# Altium footprint library design.PcbLib: 44 footprints (part 3 of 3)
Each footprint in its own frame and in the unit in brackets; x right, y up, seen from the top. Pads: shape width x height; smd on the part's side, far side on the other; paste and mask are expansions set on the pad; w line width, h text height; cw(c..) or ccw(c..) is an arc to the next point about the centre after c.
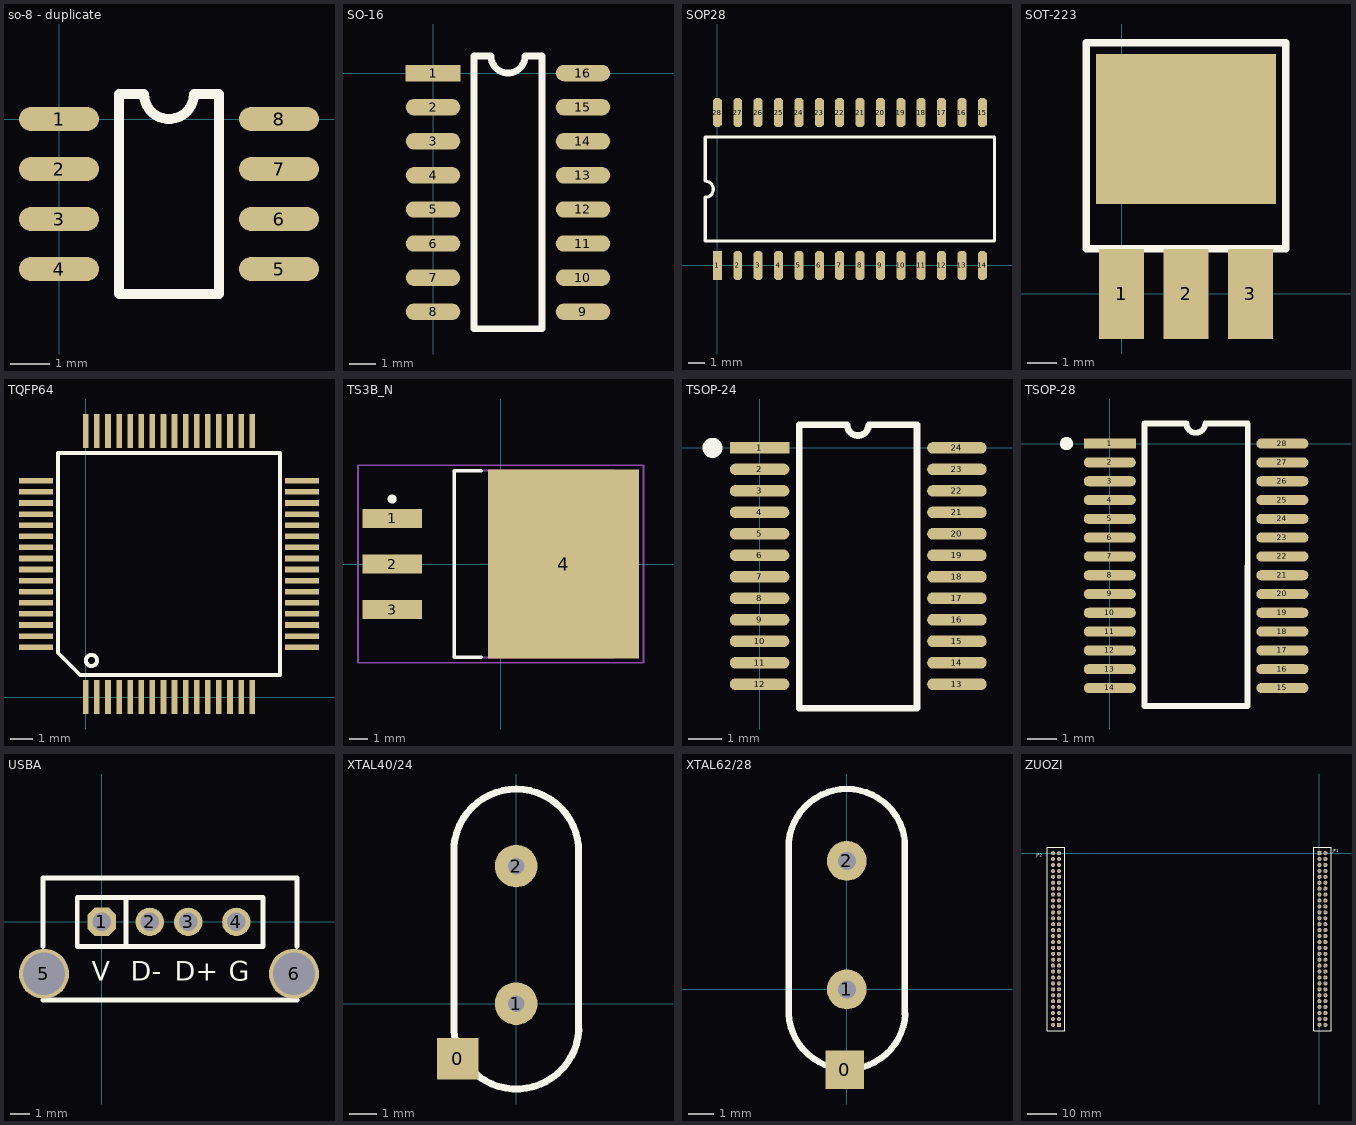
[diagram p2: the footprints below, top view; thin cyan lines are the x and y axes]

## so-8 - duplicate [mil]
pads (8):
  oval 80x24 smd mask+4: 1(0,0) 2(0,-50) 3(0,-100) 4(0,-150) 5(220,-150) 6(220,-100) 7(220,-50) 8(220,0)
Top Overlay:
  lines w10: 60,-175 160,-175 160,25 135,25 cw(c110,25) 85,25 60,25 60,-175

## SO-16 [mil]
pads (16):
  rect 80x24 smd: 1(0,0)
  oval 80x24 smd: 2(0,-50) 3(0,-100) 4(0,-150) 5(0,-200) 6(0,-250) 7(0,-300) 8(0,-350) 9(220,-350) 10(220,-300) 11(220,-250) 12(220,-200) 13(220,-150) 14(220,-100) 15(220,-50) 16(220,0)
Top Overlay:
  lines w10: 60,-375 160,-375 160,25 135,25 cw(c110,25) 85,25 60,25 60,-375

## SOP28 [mil]
height 66.93
pads (28):
  rect 22x72 smd: 1(0,0)
  oct 22x72 smd: 2(50,0) 3(100,0) 4(150,0) 5(200,0) 6(250,0) 7(300,0) 8(350,0) 9(400,0) 10(450,0) 11(500,0) 12(550,0) 13(600,0) 14(650,0) 15(650,375) 16(600,375) 17(550,375) 18(500,375) 19(450,375) 20(400,375) 21(350,375) 22(300,375) 23(250,375) 24(200,375) 25(150,375) 26(100,375) 27(50,375) 28(0,375)
Top Overlay:
  lines w8: -30,60 -30,167 ccw(c-30,187) -30,207 -30,315 680,315 680,60 -30,60

## SOT-223 [mil]
height 66.93
pads (4):
  rect 60x120 smd: 1(0,0) 2(86,0) 3(172,0)
  rect 240x200 smd: ""(86,220)
Top Overlay:
  lines w10: -47,60 219,60 219,335 -47,335 -47,60

## TQFP64 [mil]
pads (64):
  rect 10x60 smd: 1(0.39,0.2) 2(20.07,0.2) 3(39.76,0.2) 4(59.44,0.2) 5(79.13,0.2) 6(98.81,0.2) 7(118.5,0.2) 8(138.18,0.2) 9(157.87,0.2) 10(177.55,0.2) 11(197.24,0.2) 12(216.92,0.2) 13(236.61,0.2) 14(256.29,0.2) 15(275.98,0.2) 16(295.66,0.2) 33(295.66,472.65) 34(275.98,472.65) 35(256.29,472.65) 36(236.61,472.65) 37(216.92,472.65) 38(197.24,472.65) 39(177.55,472.65) 40(157.87,472.65) 41(138.18,472.65) 42(118.5,472.65) 43(98.81,472.65) 44(79.13,472.65) 45(59.44,472.65) 46(39.76,472.65) 47(20.07,472.65) 48(0.39,472.65)
  rect 60x10 smd: 17(384.24,88.79) 18(384.24,108.47) 19(384.24,128.16) 20(384.24,147.84) 21(384.24,167.53) 22(384.24,187.21) 23(384.24,206.9) 24(384.24,226.58) 25(384.24,246.27) 26(384.24,265.95) 27(384.24,285.64) 28(384.24,305.32) 29(384.24,325.01) 30(384.24,344.69) 31(384.24,364.38) 32(384.24,384.06) 49(-88.2,384.06) 50(-88.2,364.38) 51(-88.2,344.69) 52(-88.2,325.01) 53(-88.2,305.32) 54(-88.2,285.64) 55(-88.2,265.95) 56(-88.2,246.27) 57(-88.2,226.58) 58(-88.2,206.9) 59(-88.2,187.21) 60(-88.2,167.53) 61(-88.2,147.84) 62(-88.2,128.16) 63(-88.2,108.47) 64(-88.2,88.79)
Top Overlay:
  circle w7: c10.39,65.2 r10
  lines w7: -48.83,78.94 -9.46,39.57 344.87,39.57 344.87,433.28 -48.83,433.28 -48.83,78.94

## TS3B_N [mm] "D2-PAK, 4-Leads, Body 8.6x10.2mm, Pitch 2.54mm, Lead Span 14.2mm, IPC Medium Density"
height 4.64
pads (4):
  rect 3.3x1.05 smd: 1(-6.05,2.54) 2(-6.05,0) 3(-6.05,-2.54)
  rect 8.4x10.5 smd: 4(3.5,0)
Top Overlay:
  circle w0.25: c-6.05,3.615 r0.125
  lines w0.2: -1.1,-5.2 -2.6,-5.2 -2.6,5.2 -1.1,5.2
Mechanical 13:
  lines w0.1: -2.6,-5.2 6.29,-5.2 6.29,5.2 -2.6,5.2 -2.6,-5.2
Mechanical 15:
  lines w0.1: -0.5,0 0.5,0 ; 0,-0.5 0,0.5 ; -7.95,-5.5 7.95,-5.5 7.95,5.5 -7.95,5.5 -7.95,-5.5
3D body: height 4.64, standoff 0, extent -2.599,-5.199 6.289,5.199

## TSOP-24 [mm]
pads (24):
  rect 1.8x0.35 smd mask+0.102: 1(0,0)
  oval 1.8x0.35 smd mask+0.102: 2(0,-0.65) 3(0,-1.3) 4(0,-1.95) 5(0,-2.6) 6(0,-3.25) 7(0,-3.9) 8(0,-4.55) 9(0,-5.2) 10(0,-5.85) 11(0,-6.5) 12(0,-7.15) 13(5.969,-7.15) 14(5.969,-6.5) 15(5.969,-5.85) 16(5.969,-5.2) 17(5.969,-4.55) 18(5.969,-3.9) 19(5.969,-3.25) 20(5.969,-2.6) 21(5.969,-1.95) 22(5.969,-1.3) 23(5.969,-0.65) 24(5.969,0)
Top Overlay:
  circle w0.3: c-1.424,0 r0.154
  lines w0.2: 2.6,0.7 1.2,0.7 1.2,-7.874 4.764,-7.874 4.764,0.7 ; 2.65,0.7 ccw(c2.975,0.7) 3.3,0.7 4.769,0.7

## TSOP-28 [mm]
pads (28):
  rect 1.8x0.35 smd mask+0.102: 1(0,0)
  oval 1.8x0.35 smd mask+0.102: 2(0,-0.65) 3(0,-1.3) 4(0,-1.95) 5(0,-2.6) 6(0,-3.25) 7(0,-3.9) 8(0,-4.55) 9(0,-5.2) 10(0,-5.85) 11(0,-6.5) 12(0,-7.15) 13(0,-7.8) 14(0,-8.45) 15(5.969,-8.45) 16(5.969,-7.8) 17(5.969,-7.15) 18(5.969,-6.5) 19(5.969,-5.85) 20(5.969,-5.2) 21(5.969,-4.55) 22(5.969,-3.9) 23(5.969,-3.25) 24(5.969,-2.6) 25(5.969,-1.95) 26(5.969,-1.3) 27(5.969,-0.65) 28(5.969,0)
Top Overlay:
  circle w0.254: c-1.497,0 r0.1
  lines w0.2: 2.6,0.7 1.2,0.7 1.205,-9.075 4.769,-9.075 ; 2.65,0.7 ccw(c2.975,0.7) 3.3,0.7 4.769,0.7 4.764,-9.075

## USBA [mm]
height 1.7
pads (6):
  oct 1.473x1.473 hole 0.965: 1(0,0)
  round 1.473 hole 0.965: 2(2.5,0) 3(4.5,0) 4(7,0)
  round 2.6 hole 2.2: 5(-3,-2.7) 6(10,-2.7)
Top Overlay:
  lines w0.254: -3.048,-4.064 10.16,-4.064 ; -3.048,-1.27 -3.048,2.286 10.16,2.286 10.16,-1.27 ; 1.27,-1.27 1.27,1.27 ; -1.27,-1.27 8.382,-1.27 8.382,1.27 -1.27,1.27 -1.27,-1.27
  text "D-" at 1.524,-3.048 h1.02
  text "D+" at 3.81,-3.048 h1.02
  text "V" at -0.508,-3.048 h1.02
  text "G" at 6.604,-3.048 h1.02

## XTAL40/24 [mil]
height 66.93
pads (3):
  rect 60x60 smd: 0(-85,-80)
  round 62 hole 24: 1(0,0) 2(0,200)
Top Overlay:
  lines w10: -90.55,229.92 -90.55,-37.8 ccw(c0.33,-33.12) 91.19,-38.04 ; -90.25,229.97 cw(c0.15,221.22) 90.55,229.92 90.55,-38

## XTAL62/28 [mil]
height 66.93
pads (3):
  rect 60x60 smd: 0(-3,-125)
  round 62 hole 28: 1(0,0) 2(0,200)
Top Overlay:
  lines w10: -90.55,229.92 -90.55,-37.8 ccw(c0.33,-33.12) 91.19,-38.04 ; -90.25,229.97 cw(c0.15,221.22) 90.55,229.92 90.55,-38

## ZUOZI [mil]
pads (120):
  rect 54x54 hole 32: 1(0,0) 61(-3464.57,-2283.46)
  round 54 hole 32: 2(78.74,0) 3(0,-78.74) 4(78.74,-78.74) 5(0,-157.48) 6(78.74,-157.48) 7(0,-236.22) 8(78.74,-236.22) 9(0,-314.96) 10(78.74,-314.96) 11(0,-393.7) 12(78.74,-393.7) 13(0,-472.44) 14(78.74,-472.44) 15(0,-551.18) 16(78.74,-551.18) 17(0,-629.92) 18(78.74,-629.92) 19(0,-708.66) 20(78.74,-708.66) 21(0,-787.4) 22(78.74,-787.4) 23(0,-866.14) 24(78.74,-866.14) 25(0,-944.88) 26(78.74,-944.88) 27(0,-1023.62) 28(78.74,-1023.62) 29(0,-1102.36) 30(78.74,-1102.36) 31(0,-1181.1) 32(78.74,-1181.1) 33(0,-1259.84) 34(78.74,-1259.84) 35(0,-1338.58) 36(78.74,-1338.58) 37(0,-1417.32) 38(78.74,-1417.32) 39(0,-1496.06) 40(78.74,-1496.06) 41(0,-1574.8) 42(78.74,-1574.8) 43(0,-1653.54) 44(78.74,-1653.54) 45(0,-1732.28) 46(78.74,-1732.28) 47(0,-1811.02) 48(78.74,-1811.02) 49(0,-1889.76) 50(78.74,-1889.76) 51(0,-1968.5) 52(78.74,-1968.5) 53(0,-2047.24) 54(78.74,-2047.24) 55(0,-2125.98) 56(78.74,-2125.98) 57(0,-2204.72) 58(78.74,-2204.72) 59(0,-2283.46) 60(78.74,-2283.46) 62(-3543.31,-2283.46) 63(-3464.57,-2204.72) 64(-3543.31,-2204.72) 65(-3464.57,-2125.98) 66(-3543.31,-2125.98) 67(-3464.57,-2047.24) 68(-3543.31,-2047.24) 69(-3464.57,-1968.5) 70(-3543.31,-1968.5) 71(-3464.57,-1889.76) 72(-3543.31,-1889.76) 73(-3464.57,-1811.02) 74(-3543.31,-1811.02) 75(-3464.57,-1732.28) 76(-3543.31,-1732.28) 77(-3464.57,-1653.54) 78(-3543.31,-1653.54) 79(-3464.57,-1574.8) 80(-3543.31,-1574.8) 81(-3464.57,-1496.06) 82(-3543.31,-1496.06) 83(-3464.57,-1417.32) 84(-3543.31,-1417.32) 85(-3464.57,-1338.58) 86(-3543.31,-1338.58) 87(-3464.57,-1259.84) 88(-3543.31,-1259.84) 89(-3464.57,-1181.1) 90(-3543.31,-1181.1) 91(-3464.57,-1102.36) 92(-3543.31,-1102.36) 93(-3464.57,-1023.62) 94(-3543.31,-1023.62) 95(-3464.57,-944.88) 96(-3543.31,-944.88) 97(-3464.57,-866.14) 98(-3543.31,-866.14) 99(-3464.57,-787.4) 100(-3543.31,-787.4) 101(-3464.57,-708.66) 102(-3543.31,-708.66) 103(-3464.57,-629.92) 104(-3543.31,-629.92) 105(-3464.57,-551.18) 106(-3543.31,-551.18) 107(-3464.57,-472.44) 108(-3543.31,-472.44) 109(-3464.57,-393.7) 110(-3543.31,-393.7) 111(-3464.57,-314.96) 112(-3543.31,-314.96) 113(-3464.57,-236.22) 114(-3543.31,-236.22) 115(-3464.57,-157.48) 116(-3543.31,-157.48) 117(-3464.57,-78.74) 118(-3543.31,-78.74) 119(-3464.57,0) 120(-3543.31,0)
Top Overlay:
  lines w10: -3622.05,-2362.2 -3385.83,-2362.2 -3385.83,78.74 -3622.05,78.74 -3622.05,-2362.2 ; -78.74,-2362.2 157.48,-2362.2 157.48,78.74 -78.74,78.74 -78.74,-2362.2
  text "JP1" at 180,10.87 h40
  text "JP2" at -3770,-49.13 h40